# EAGLE library part ALLIANCE-AS4C8M16MSA-6BIN (library EagleLibrary)
128M Low Power SDRAM
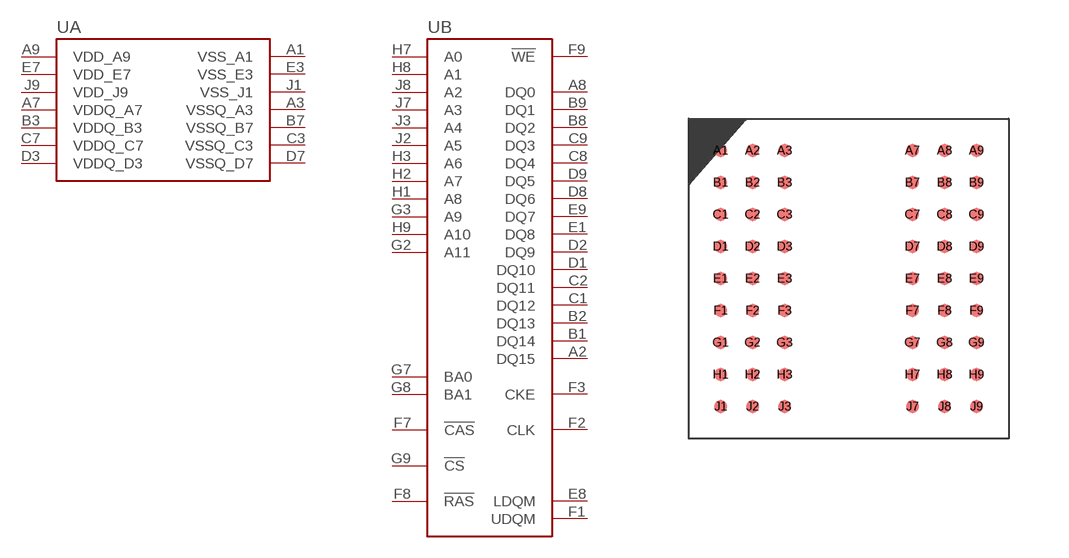
[diagram p44: symbol with the pads of ALLIANCE-AS4C8M16MSA-6BIN; footprint ALLIANCE-AS4C8M16MSA-6BIN]

Designator prefix U; gates A=ALLIANCE-AS4C8M16MSA-6BIN-A B=ALLIANCE-AS4C8M16MSA-6BIN-B

## ALLIANCE-AS4C8M16MSA-6BIN (MFG: Alliance Memory; PN: AS4C8M16MSA-6BIN)  [ALLIANCE-AS4C8M16MSA-6BIN]
A1  A:VSS_A1
A2  B:DQ15
A3  A:VSSQ_A3
A7  A:VDDQ_A7
A8  B:DQ0
A9  A:VDD_A9
B1  B:DQ14
B2  B:DQ13
B3  A:VDDQ_B3
B7  A:VSSQ_B7
B8  B:DQ2
B9  B:DQ1
C1  B:DQ12
C2  B:DQ11
C3  A:VSSQ_C3
C7  A:VDDQ_C7
C8  B:DQ4
C9  B:DQ3
D1  B:DQ10
D2  B:DQ9
D3  A:VDDQ_D3
D7  A:VSSQ_D7
D8  B:DQ6
D9  B:DQ5
E1  B:DQ8
E3  A:VSS_E3
E7  A:VDD_E7
E8  B:LDQM
E9  B:DQ7
F1  B:UDQM
F2  B:CLK
F3  B:CKE
F7  B:!CAS!
F8  B:!RAS!
F9  B:!WE!
G2  B:A11
G3  B:A9
G7  B:BA0
G8  B:BA1
G9  B:!CS!
H1  B:A8
H2  B:A7
H3  B:A6
H7  B:A0
H8  B:A1
H9  B:A10
J1  A:VSS_J1
J2  B:A5
J3  B:A4
J7  B:A3
J8  B:A2
J9  A:VDD_J9

## Footprint ALLIANCE-AS4C8M16MSA-6BIN (pad centres in mm)
DRAM Chip Mobile LPSDR SDRAM 512M-Bit 32Mx16 1.8V 54-Pin VFBGA
smd 0.33 x 0.33: A1 -3.2,3.2; A2 -2.4,3.2; A3 -1.6,3.2; A7 1.6,3.2; A8 2.4,3.2; A9 3.2,3.2; B1 -3.2,2.4; B2 -2.4,2.4; B3 -1.6,2.4; B7 1.6,2.4; B8 2.4,2.4; B9 3.2,2.4; C1 -3.2,1.6; C2 -2.4,1.6; C3 -1.6,1.6; C7 1.6,1.6; C8 2.4,1.6; C9 3.2,1.6; D1 -3.2,0.8; D2 -2.4,0.8; D3 -1.6,0.8; D7 1.6,0.8; D8 2.4,0.8; D9 3.2,0.8; E1 -3.2,0; E2 -2.4,0; E3 -1.6,0; E7 1.6,0; E8 2.4,0; E9 3.2,0; F1 -3.2,-0.8; F2 -2.4,-0.8; F3 -1.6,-0.8; F7 1.6,-0.8; F8 2.4,-0.8; F9 3.2,-0.8; G1 -3.2,-1.6; G2 -2.4,-1.6; G3 -1.6,-1.6; G7 1.6,-1.6; G8 2.4,-1.6; G9 3.2,-1.6; H1 -3.2,-2.4; H2 -2.4,-2.4; H3 -1.6,-2.4; H7 1.6,-2.4; H8 2.4,-2.4; H9 3.2,-2.4; J1 -3.2,-3.2; J2 -2.4,-3.2; J3 -1.6,-3.2; J7 1.6,-3.2; J8 2.4,-3.2; J9 3.2,-3.2